# Altium integrated library EB-USB-OTG1_v1.IntLib: 10 symbols
Pins are listed as number, name and electrical type; pins without a type are passive.

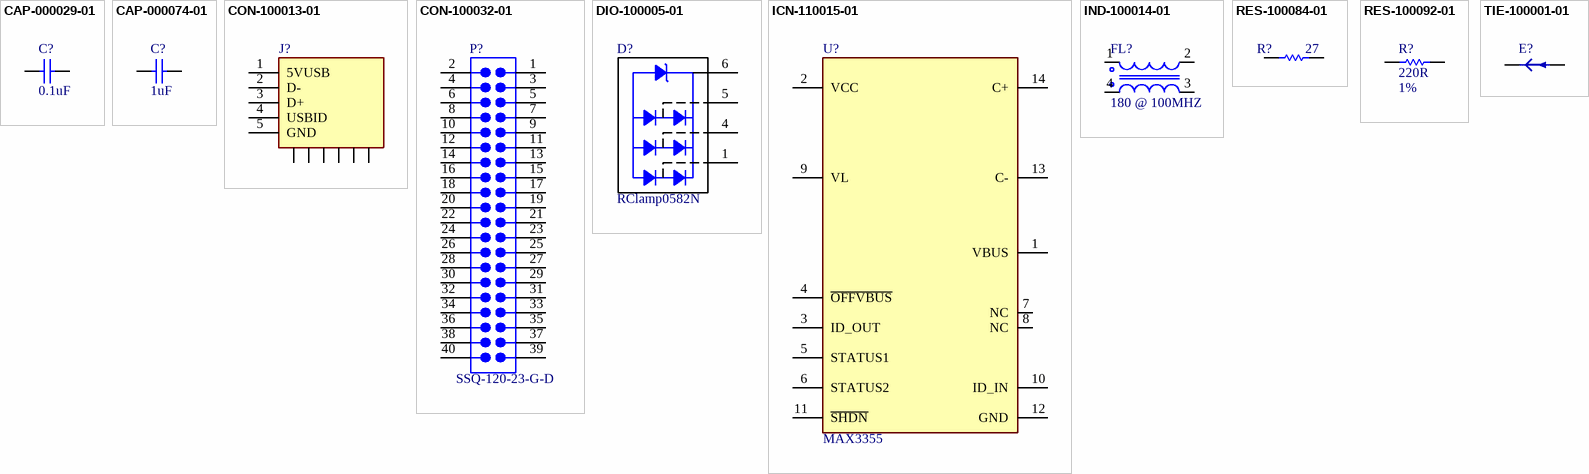
[diagram p0: symbols CAP-000029-01 to TIE-100001-01]

## CAP-000029-01
designator C?  Capacitance: 0.1uF  (hidden comment: CAP-000029-01)
Ceramic Chip Capacitor 0603 0.1uF 50V; Manufacturer: Samsung; Mfg Part Number: CL10B104KB8NNNC; Dialectric: X7R; Tolerance: 10%; Voltage: 50V; Package: 0603; Manufacturer 1: Samsung; Manufacturer Part Number 1: CL10B104KB8NNNC; Mfg: Samsung; PN: CL10B104KB8NNNC; Supplier 1: Digi-Key; Supplier Part Number 1: 1276-1000-1-ND; Supplier 2: RSComponents; Supplier 3: Mouser; Supplier Part Number 2: 7665443; Supplier Part Number 3: 187-CL10B104KB8NNNC
footprint CAPC0603-01 (Chip Capacitor, Body 1.6x0.8mm, Height 0.55mm, IPC Medium Density)
pins: 1, 2
1 alternate drawing of the same symbol

## CAP-000074-01
designator C?  Capacitance: 1uF  (hidden comment: CAP-000074-01)
Ceramic Chip Capacitor 0603 1uF 50V; Manufacturer: Taiyo Yuden; Mfg Part Number: UMK107BJ105KA-T; Dialectric: X5R; Tolerance: 10%; Old Mfg: Samsung; Old PN: CL10A105KB8NNNC; Voltage: 50V; Package: 0603; Manufacturer 1: Taiyo Yuden; Manufacturer Part Number 1: UMK107BJ105KA-T; Supplier 1: Digi-Key; Supplier Part Number 1: 1276-1860-1-ND; Mfg: Taiyo Yuden; PN: UMK107BJ105KA-T; Supplier 2: Digi-Key; Supplier 3: Mouser; Supplier 4: Farnell; Supplier Part Number 2: 587-2400-1-ND; Supplier Part Number 3: 963-UMK107BJ105KA-T; Supplier Part Number 4: 2112858
footprint CAPC0603-01 (Chip Capacitor, Body 1.6x0.8mm, Height 0.55mm, IPC Medium Density)
pins: 1, 2
1 alternate drawing of the same symbol

## CON-100013-01
designator J?  (value not drawn)
USB Micro AB 2.0 Female 5 Pin Right Angle Molex; Mfg Part Number: 47589-0001; Value: USB uAB; Manufacturer: Molex; Manufacturer 1: Molex; Manufacturer Part Number 1: 47589-0001; Supplier 1: Digi-Key; Supplier Part Number 1: WM17143CT-ND; Mfg: Molex; PN: 47589-0001
footprint MOLEX_47589-0001 (Molex USB Micro AB SMT with retention)
pins: 1 5VUSB, 2 D-, 3 D+, 4 USBID, 5 GND, C1, C2, C3, C4, C5, C6

## CON-100032-01
designator P?  PN: SSQ-120-23-G-D  (hidden comment: CON-100032-01)
SAMTEC Female Header 0.1" pitch 40pos 2x20, 10mm pins, gold flash tail; Positions: 40; Pitch: 2.54mm; system: connector; Manufacturer: Samtec; Mfg Part Number: SSQ-120-23-G-D; Manufacturer 1: Samtec; Manufacturer Part Number 1: SSQ-120-23-G-D; Supplier 1: Digi-Key; Supplier Part Number 1: SAM11925-ND; Mfg: Samtec; Supplier 2: Mouser; Supplier Part Number 2: 200-SSQ12023GD
footprint SAMTEC_SSQ-120-23-x-D (SAMTEC Header Female 2.54mm pitch 40pos 2x20, 10.00mm pins)
pins: 1, 2, 3, 4, 5, 6, 7, 8, 9, 10, 11, 12, 13, 14, 15, 16, 17, 18, 19, 20, 21, 22, 23, 24, 25, 26, 27, 28, 29, 30, 31, 32, 33, 34, 35, 36, 37, 38, 39, 40

## DIO-100005-01
designator D?  Display Name: RClamp0582N  (hidden comment: DIO-100005-01)
Semtech TVS Diode Array for USB; Mfg Part Number: RClamp0582N.TCT; Manufacturer: Semtech; Package: SLP1210N6; Manufacturer 1: Semtech; Manufacturer Part Number 1: RClamp0582N.TCT; Supplier 1: Digi-Key; Supplier Part Number 1: RCLAMP0582N.TCTCT-ND; Mfg: Semtech; PN: RClamp0582N.TCT
footprint SEMTECH_SLP1210N6 (Semtech, 6 pin SON, SLP1210N6)
pins: 1, 2 NC, 3 NC, 4, 5, 6
1 alternate drawing of the same symbol

## ICN-110015-01
designator U?  Display Name: MAX3355  (hidden comment: ICN-110015-01)
USB OTG Charge Pump; Manufacturer: Maxim; Manufacturer Part Number 1: MAX3355EEUD; Manufacturer 1: Maxim; Mfg: Maxim; PN: MAX3355EEUD; Mfg Part Number: MAX3355EEUD; Supplier 1: Digi-Key; Supplier Part Number 1: MAX3355EEUD+-ND; Supplier 2: Mouser; Supplier 3: Farnell; Supplier Part Number 2: 700-MAX3355EEUD; Supplier Part Number 3: 2514394
footprint MAXIM_TSSOP-14 (TSOP, 14-Leads, Body 5.00x4.40mm, Pitch 0.65mm, IPC Medium Density)
pins: 1 VBUS (power), 2 VCC (power), 3 ID_OUT, 4 ~{OFFVBUS} (power), 5 STATUS1, 6 STATUS2, 7 NC, 8 NC, 9 VL, 10 ID_IN, 11 ~{SHDN}, 12 GND, 13 C-, 14 C+

## IND-100014-01
designator FL?  Resistance: 180 @ 100MHZ  (hidden comment: IND-100014-01)
Common Mode Filter Inductor, 180 ohm CM @ 100MHz, 0805; Manufacturer: Murata; Mfg Part Number: DLW21SN181SQ2; Current: 330mA; Tolerance: 25%; Package: FL0805; Manufacturer 1: Murata; Manufacturer Part Number 1: DLW21SN181SQ2; Mfg: Murata; PN: DLW21SN181SQ2; Supplier 1: Digi-Key; Supplier Part Number 1: 490-5139-1-ND; Supplier 2: RSComponents; Supplier Part Number 2: 8119745; Supplier 3: Mouser; Supplier Part Number 3: 81-DLW21SN181SQ2L
footprint MURATA_FL0805 (Choke Filter, 4p, Body 1.2x2.0x1.2mm,  IPC Medium Density)
pins: 1, 2, 3, 4

## RES-100084-01
designator R?  Resistance: 27  (hidden comment: RES-100084-01)
Chip Resistor Thick Film 0603 27R0 1% 1/10W; Manufacturer: Yageo; Mfg Part Number: RC0603FR-0727RL; Package: 0603; Power: 1/10W; Tolerance: 1%; Manufacturer 1: Yageo; Manufacturer Part Number 1: RC0603FR-0727RL; Supplier 1: Digi-Key; Supplier Part Number 1: 311-27.0HRCT-ND; Mfg: Yageo; PN: RC0603FR-0727RL; Supplier 2: Mouser; Supplier Part Number 2: 603-RC0603FR-0727RL
footprint RESC0603-01 (Chip Resistor, Body 1.6x0.8mm, IPC Medium Density)
pins: 1, 2
1 alternate drawing of the same symbol

## RES-100092-01
designator R?  Resistance: 220R  Tolerance: 1%  (hidden comment: RES-100092-01)
Chip Resistor Thick Film 0603 220 ohm 1% 1/10W; Manufacturer: Yageo; Mfg Part Number: RC0603FR-07220RL; Package: 0603; Power: 1/10W; Manufacturer 1: Yageo; Manufacturer Part Number 1: RC0603FR-07220RL; Mfg: Yageo; PN: RC0603FR-07220RL; Supplier 1: Digi-Key; Supplier Part Number 1: 311-220HRCT-ND; Supplier 2: Mouser; Supplier Part Number 2: 603-RC0603FR-07220RL
footprint RESC0603-01 (Chip Resistor, Body 1.6x0.8mm, IPC Medium Density)
pins: 1, 2
1 alternate drawing of the same symbol

## TIE-100001-01
designator E?  (value not drawn)  (net tie, no BOM)
Trace-Cut Jumper.  Pads on PCB with Trace Between for Cutting to isolate; DISPLAY_NAME: Trace-cut Jumper
footprint TraceCut0805 (0805-size Pads only on PCB with an 8mil wide cuttable trace to allow separation)
footprint TraceCut0805+L2-Shield-v2 (0805 Pads only on PCB with an 8mil wide cuttable trace, cutting shield on L2)
footprint TraceCut0805+L5-shield (0805-size Pads only on PCB with an 8mil wide cuttable trace, for use on Bottom layer of 6 layer PCB)
pins: 1 A, 2 A